# EAGLE library part MAX3491 (library BackplaneParts)
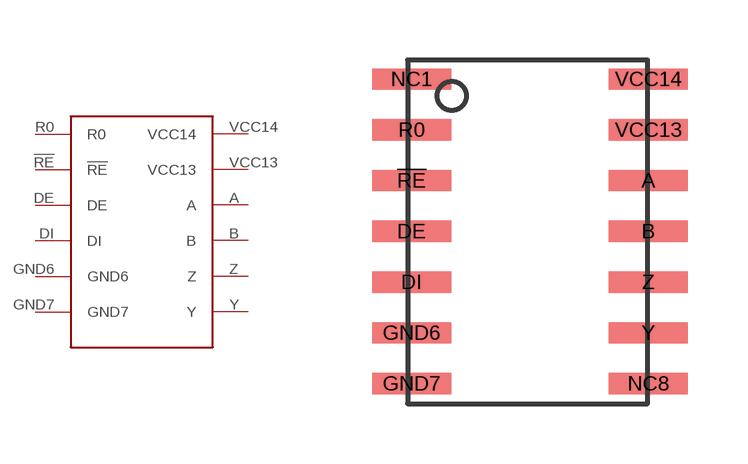
[diagram p0: symbol with the pads of MAX3491; footprint MAX3491]

Designator prefix -

## MAX3491  [MAX3491]
!RE  !RE
A  A
B  B
DE  DE
DI  DI
GND6  GND6
GND7  GND7
R0  R0
VCC13  VCC13
VCC14  VCC14
Y  Y
Z  Z

## Footprint MAX3491 (pad centres in mm)
smd 1.981 x 0.533: !RE 0,5.08; A 5.918,5.08; B 5.918,3.81; DE 0,3.81; DI 0,2.54; GND6 0,1.27; GND7 0,0; NC1 0,7.62; NC8 5.918,0; R0 0,6.35; VCC13 5.918,6.35; VCC14 5.918,7.62; Y 5.918,1.27; Z 5.918,2.54